# Altium integrated library Misc_Library.IntLib: 10 symbols
Pins are listed as number, name and electrical type; pins without a type are passive.

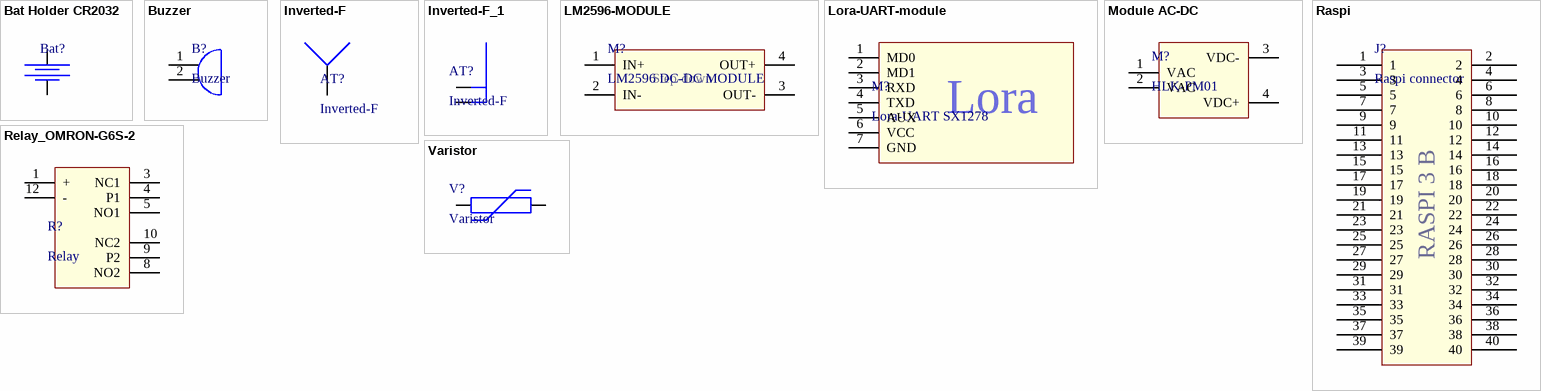
[diagram p0: symbols Bat Holder CR2032 to Varistor]

## Bat Holder CR2032
designator Bat?  (value not drawn)
Bat Holder CR2032 SMD; Note: Bat Holder CR2032
footprint CR2032_HOLDER
footprint CR2032_DIP_PLASTIC (PBT PLASTIC)
pins: 1, 2

## Buzzer
designator B?
Tpye: Voltage supply
footprint BUZZER_9.5x12MM
pins: 1, 2

## Inverted-F
designator AT?
Texas Instrument
footprint INVERTED_F (TI)
pins: 1, 2 hidden to GND

## Inverted-F_1
designator AT?, comment Inverted-F
Texas Instrument
footprint INVERTED_F (TI)
pins: 1, 2

## LM2596-MODULE
designator M?, comment LM2596 DC-DC MODULE
DC-DC Step-down converter
footprint LM2596_MODULE (DC-DC Step-down converter)
pins: 1 IN+, 2 IN-, 3 OUT-, 4 OUT+
text: Step-down

## Lora-UART-module
designator M?, comment Lora-UART SX1278
Manufacture: Ashining; Transmision Power: 100mW
footprint Lora-UART-ASHINING-100mW
pins: 1 MD0, 2 MD1, 3 RXD, 4 TXD, 5 AUX, 6 VCC, 7 GND
text: Lora

## Module AC-DC
designator M?, comment HLK-PM01
AC-DC converter module Hi-Link; Name: HLK-PM01; Type: 220VAC to 5VDC; Link: https://iotmaker.vn/ac-dc-hlk-pm01-220v-5v.html
footprint AC-DC_Hi-Link_module
pins: 1 VAC, 2 VAC, 3 VDC-, 4 VDC+

## Raspi
designator J?, comment Raspi connector
footprint RASPI_3B
pins: 1, 2, 3, 4, 5, 6, 7, 8, 9, 10, 11, 12, 13, 14, 15, 16, 17, 18, 19, 20, 21, 22, 23, 24, 25, 26, 27, 28, 29, 30, 31, 32, 33, 34, 35, 36, 37, 38, 39, 40
text: RASPI 3 B

## Relay_OMRON-G6S-2
designator R?, comment Relay
Relay OMRON
footprint RELAY-OMRON-G6S-2-Y
pins: 1 +, 3 NC1, 4 P1, 5 NO1, 8 NO2, 9 P2, 10 NC2, 12 -

## Varistor
designator V?
Voltage: 390V
footprint VARISTOR-7D
pins: 1, 2